# Altium schematic symbol library SRV05-4HTG.SchLib: 1 symbol
Pins are listed as number, name and electrical type; pins without a type are passive.

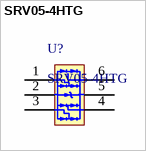
[diagram p0: symbol SRV05-4HTG]

## SRV05-4HTG
designator U?
pins: 1 (power), 2 (power), 3 (power), 4 (power), 5 (power), 6 (power)